# EAGLE library part ALPS-RK27-DUAL (library toslink)
ALPS RK27-DUAL
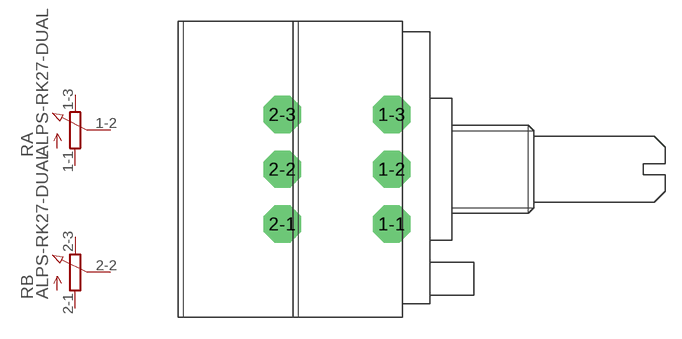
[diagram p15: symbol with the pads of ALPS-RK27-DUAL; footprint ALPS-RK27-DUAL]

Designator prefix R; gates A=POT B=POT

## ALPS-RK27-DUAL  [ALPS-RK27-DUAL]
1-1  A:1  pas
1-2  A:2  pas
1-3  A:3  pas
2-1  B:1  pas
2-2  B:2  pas
2-3  B:3  pas

## Footprint ALPS-RK27-DUAL (pad centres in mm)
ALPS RK27 DUAL POTENTIOMETER
drill 1.2 pad 3.4 octagon: 1-1 0,-5; 1-2 0,0; 1-3 0,5; 2-1 -10,-5; 2-2 -10,0; 2-3 -10,5